# Altium schematic symbol library control.SchLib: 79 symbols
Pins are listed as number, name and electrical type; pins without a type are passive.

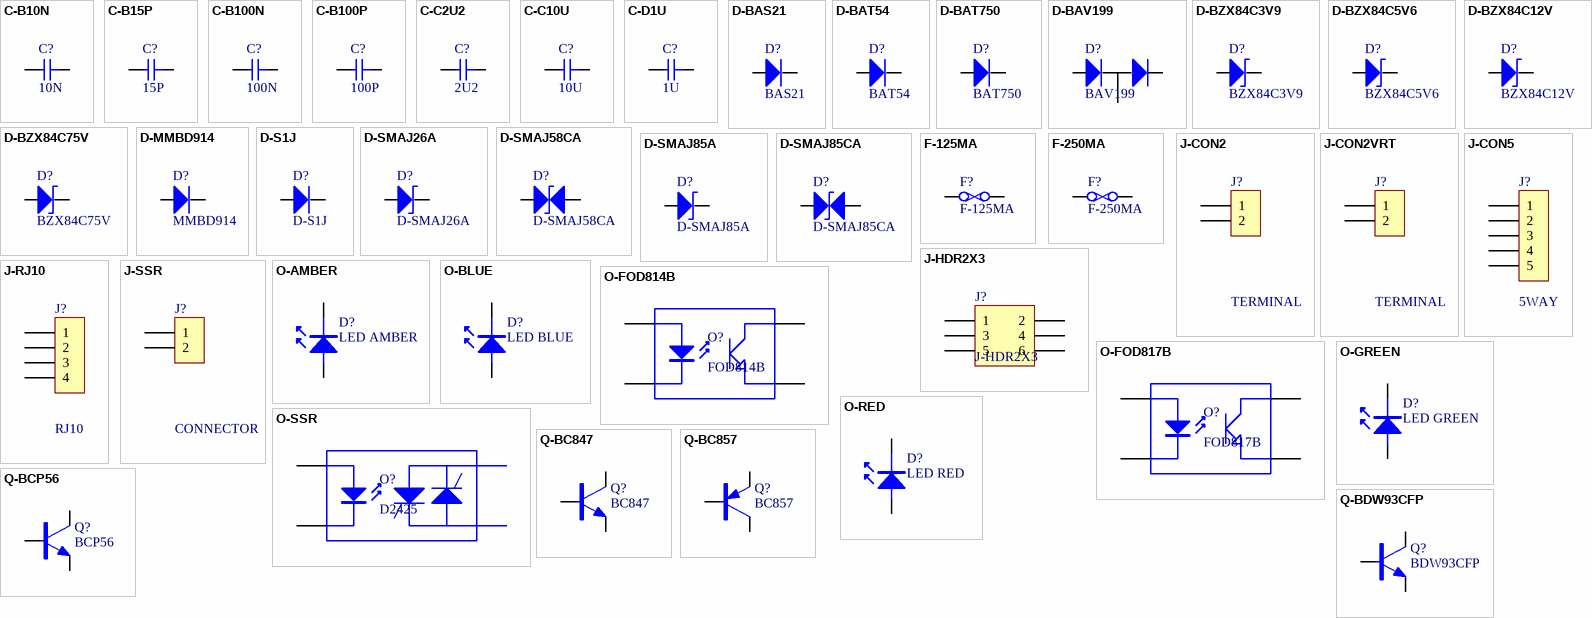
[diagram p0: symbols C-B10N to Q-BDW93CFP]

## C-B10N
designator C?, comment 10N
CAPACITOR; Detail: 25 V; Cost: *; Order: *
footprint 0805
pins: 1, 2

## C-B15P
designator C?, comment 15P
CAPACITOR; Detail: 25 V; Cost: *; Order: *
footprint 0805
pins: 1, 2

## C-B100N
designator C?, comment 100N
CAPACITOR; Detail: 25 V; Cost: *; Order: *
footprint 0805
pins: 1, 2

## C-B100P
designator C?, comment 100P
CAPACITOR; Detail: 25 V; Cost: *; Order: *
footprint 0805
pins: 1, 2

## C-C2U2
designator C?, comment 2U2
CAPACITOR; Detail: 25 V
footprint 1206 (SMD 1206)
pins: 1, 2

## C-C10U
designator C?, comment 10U
CAPACITOR; Detail: 35 V
footprint 1206 (SMD 1206)
pins: 1, 2

## C-D1U
designator C?, comment 1U
CAPACITOR; Detail: 100V
footprint 1206 (SMD 1206)
pins: 1, 2

## D-BAS21
designator D?, comment BAS21
DIODE; Detail: BAS21LT1G; Order: (DK) BAS21LT1GOSTR-ND
footprint SOT23
pins: 1 A, 3 K

## D-BAT54
designator D?, comment BAT54
DIODE; Detail: *
footprint SOT23
pins: 1 A, 3 K

## D-BAT750
designator D?, comment BAT750
DIODE; Detail: BAT750-7-F; Order: (DK) BAT750-FDITR-ND
footprint SOT23
pins: 1 A, 3 K

## D-BAV199
designator D?, comment BAV199
DUAL DIODE; Detail: BAV199
footprint SOT23
pins: 1 A, 2 K, 3 C

## D-BZX84C3V9
designator D?, comment BZX84C3V9
ZENER DIODE; Detail: BZX84C3V9; Order: *; Cost: 0.027
footprint SOT23
pins: 1 A, 3 K

## D-BZX84C5V6
designator D?, comment BZX84C5V6
ZENER DIODE; Detail: BZX84C5V6; Order: *; Cost: 0.027
footprint SOT23
pins: 1 A, 3 K

## D-BZX84C12V
designator D?, comment BZX84C12V
ZENER DIODE; Detail: BZX84C12V; Order: *; Cost: 0.027
footprint SOT23
pins: 1 A, 3 K

## D-BZX84C75V
designator D?, comment BZX84C75V
ZENER DIODE; Detail: BZX84C75V; Order: *; Cost: 0.027
footprint SOT23
pins: 1 A, 3 K

## D-MMBD914
designator D?, comment MMBD914
DIODE; Detail: MMBD914
footprint SOT23
pins: 1 A, 3 K

## D-S1J
designator D?
DIODE; Detail: FAIRCHILD S1J; Order: (DK) S1JFSTR-ND; Cost: 0.0384
footprint SMA
pins: 1 A, 2 K

## D-SMAJ26A
designator D?
ZENER DIODE; Detail: *
footprint SMA
pins: 1 A, 2 K

## D-SMAJ58CA
designator D?
ZENER DIODE; Detail: *
footprint SMA
pins: 1 A, 2 K

## D-SMAJ85A
designator D?
ZENER DIODE; Detail: *
footprint SMA
pins: 1 A, 2 K

## D-SMAJ85CA
designator D?
ZENER DIODE; Detail: *
footprint SMA
pins: 1 A, 2 K

## F-125MA
designator F?
FUSE; Detail: LITTLE FUSE 0466.125NR; Order: E14 PN 1596521
footprint 1206 (SMD 1206)
pins: 1, 2

## F-250MA
designator F?
FUSE; Detail: Bel Type FC-203
footprint FC203 (Fuse Holder 5 x 15 mm)
pins: 1, 2, 3, 4

## J-CON2
designator J?, comment TERMINAL
CONNECTOR; Detail: CAMDENBOSS CTB9208/2 AND CTB9308/2
footprint CTB9308 (PLUGGABLE SCREW TERMINAL)
pins: 1, 2

## J-CON2VRT
designator J?, comment TERMINAL
CONNECTOR; Detail: CAMDENBOSS CTB9308/2 AND CTB92VJ/2S
footprint CTB9308 (PLUGGABLE SCREW TERMINAL)
pins: 1, 2

## J-CON5
designator J?, comment 5WAY
CONNECTOR
footprint CON5 (SIL CONNECTOR)
pins: 1, 2, 3, 4, 5

## J-HDR2X3
designator J?
CONNECTOR; Order: CREST BH2I-06; Cost: 0.03; Detail: *
footprint HDR3X2 (Header 3 x 2)
pins: 1, 2, 3, 4, 5, 6

## J-RJ10
designator J?, comment RJ10
CONNECTOR; Detail: MOLEX 85513-5116
footprint MOLEX85513 (MOD JACK 4P4C SMD)
pins: 1, 2, 3, 4

## J-SSR
designator J?, comment CONNECTOR
Detail: MULTICOMP  MC34641
footprint CON2RA (SIL CONNECTOR)
pins: 1, 2

## O-AMBER
designator D?, comment LED AMBER
LED; Order: (DK) C503B-AAN-CY0B0251-ND; Detail: CREE C503B-AAN-CY0B0251; Cost: 0.15
footprint LED5MM (LED)
pins: 1 A, 2 K

## O-BLUE
designator D?, comment LED BLUE
LED; Order: (DK) C503B-BAN-CY0C0461-ND; Detail: CREE C503B-BAN-CY0C0461; Cost: 0.15
footprint LED5MM (LED)
pins: 1 A, 2 K

## O-FOD814B
designator O?, comment FOD814B
OPTO ISOLATOR
footprint SOP4 (FOD817)
pins: 1 A, 2 K, 3 E, 4 C

## O-FOD817B
designator O?, comment FOD817B
OPTO ISOLATOR; Order: (DK) FOD817B3SDTR-ND; Detail: FAIRCHILD FOD817B3SD; Cost: 0.136
footprint SOP4 (FOD817)
pins: 1 A, 2 K, 3 E, 4 C

## O-GREEN
designator D?, comment LED GREEN
LED; Order: (DK) C503B-GAN-CB0F0791-ND; Detail: CREE C503B-GAN-CB0F0791; Cost: 0.15
footprint LED5MM (LED)
pins: 1 A, 2 K

## O-RED
designator D?, comment LED RED
LED; Order: (DK) C503B-RAN-CY0B0AA1-ND; Detail: CREE C503B-RAN-CY0B0AA1; Cost: 0.15
footprint LED5MM (LED)
pins: 1 A, 2 K

## O-SSR
designator O?, comment D2425
SOLID STATE RELAY; Detail: CROYDOM D2425
footprint SSR (D2425)
pins: 3 A, 4 K

## Q-BC847
designator Q?, comment BC847
TRANSISTOR NPN
footprint SOT23
pins: 1 B, 2 E, 3 C

## Q-BC857
designator Q?, comment BC857
TRANSISTOR PNP
footprint SOT23
pins: 1 B, 2 E, 3 C

## Q-BCP56
designator Q?, comment BCP56
TRANSISTOR NPN; Order: (DK)
footprint SOT223
pins: 1 B, 2 C, 3 E

## Q-BDW93CFP
designator Q?, comment BDW93CFP
TRANSISTOR NPN; Order: (DK)
footprint TO220F (TO220 Flat Reverse)
pins: 1 B, 2 C, 3 E

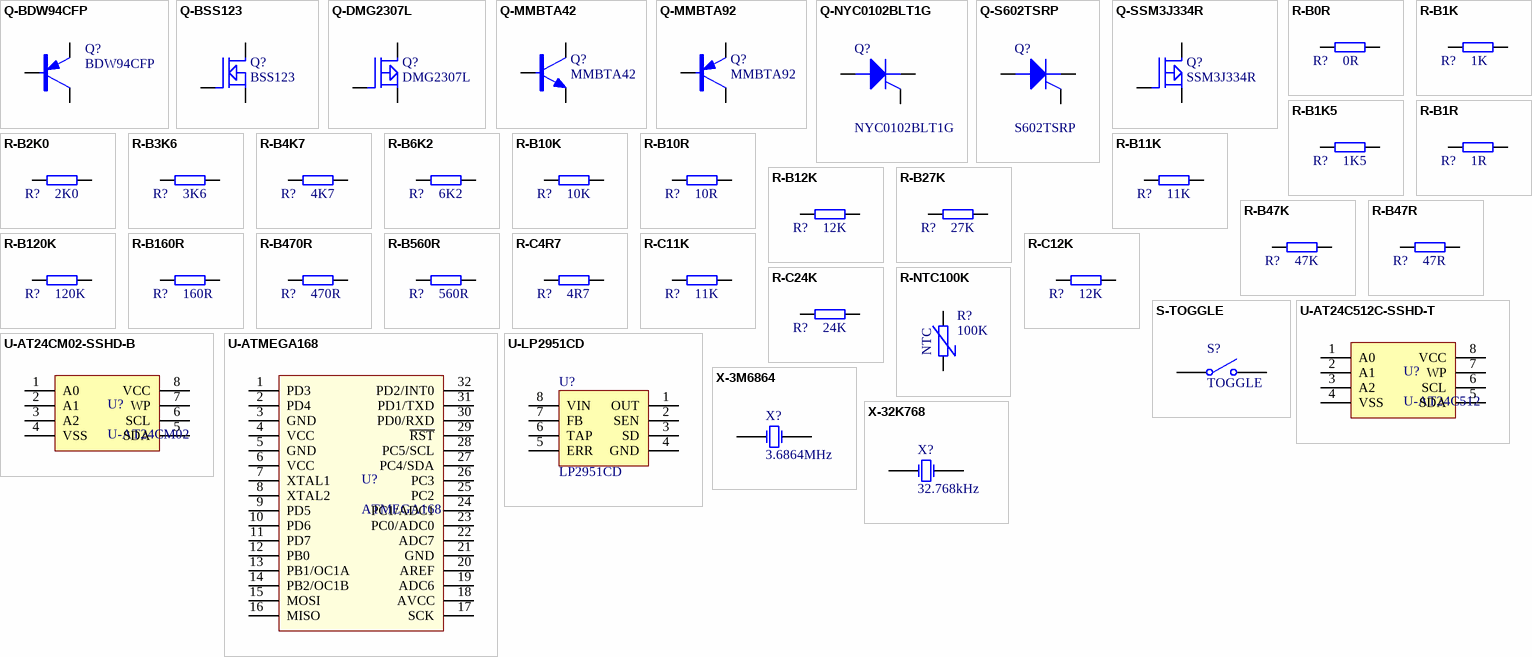
[diagram p1: symbols Q-BDW94CFP to X-32K768]

## Q-BDW94CFP
designator Q?, comment BDW94CFP
PNP; Detail: *
footprint TO220F (TO220 Flat Reverse)
pins: 1 B, 2 C, 3 E

## Q-BSS123
designator Q?, comment BSS123
N CH MOSFET
footprint SOT23
pins: 1 G, 2 S, 3 D

## Q-DMG2307L
designator Q?, comment DMG2307L
P CH MOSFET
footprint SOT23
pins: 1 G, 2 S, 3 D

## Q-MMBTA42
designator Q?, comment MMBTA42
NPN; Detail: *
footprint SOT23
pins: 1 B, 2 E, 3 C

## Q-MMBTA92
designator Q?, comment MMBTA92
TRANSISTOR PNP
footprint SOT23
pins: 1 B, 2 E, 3 C

## Q-NYC0102BLT1G
designator Q?, comment NYC0102BLT1G
SCR
footprint SOT23
pins: 1 K, 2 G, 3 A

## Q-S602TSRP
designator Q?, comment S602TSRP
SCR
footprint SOT223
pins: 1 K, 2 A, 3 G

## Q-SSM3J334R
designator Q?, comment SSM3J334R
P CH MOSFET; Order: (DK) SSM3J334RLFCT-ND; Cost: 0.50; Detail: SSM3J334R
footprint SOT23
pins: 1 G, 2 S, 3 D

## R-B0R
designator R?, comment 0R
RESISTOR; Detail: *; Order: *; Cost: *
footprint 0805
pins: 1, 2

## R-B1K
designator R?, comment 1K
RESISTOR; Detail: *; Order: *; Cost: *
footprint 0805
pins: 1, 2

## R-B1K5
designator R?, comment 1K5
RESISTOR; Detail: *; Order: *; Cost: *
footprint 0805
pins: 1, 2

## R-B1R
designator R?, comment 1R
RESISTOR; Detail: *; Order: *; Cost: *
footprint 0805
pins: 1, 2

## R-B2K0
designator R?, comment 2K0
RESISTOR; Detail: *; Order: *; Cost: *
footprint 0805
pins: 1, 2

## R-B3K6
designator R?, comment 3K6
RESISTOR; Detail: *; Order: *; Cost: *
footprint 0805
pins: 1, 2

## R-B4K7
designator R?, comment 4K7
RESISTOR; Detail: *; Order: *; Cost: *
footprint 0805
pins: 1, 2

## R-B6K2
designator R?, comment 6K2
RESISTOR; Detail: *; Order: *; Cost: *
footprint 0805
pins: 1, 2

## R-B10K
designator R?, comment 10K
RESISTOR; Detail: *; Order: *; Cost: *
footprint 0805
pins: 1, 2

## R-B10R
designator R?, comment 10R
RESISTOR; Detail: *; Order: *; Cost: *
footprint 0805
pins: 1, 2

## R-B11K
designator R?, comment 11K
RESISTOR; Detail: *; Order: *; Cost: *
footprint 0805
pins: 1, 2

## R-B12K
designator R?, comment 12K
RESISTOR; Detail: *; Order: *; Cost: *
footprint 0805
pins: 1, 2

## R-B27K
designator R?, comment 27K
RESISTOR; Detail: *; Order: *; Cost: *
footprint 0805
pins: 1, 2

## R-B47K
designator R?, comment 47K
RESISTOR; Detail: *; Order: *; Cost: *
footprint 0805
pins: 1, 2

## R-B47R
designator R?, comment 47R
RESISTOR; Detail: *; Order: *; Cost: *
footprint 0805
pins: 1, 2

## R-B120K
designator R?, comment 120K
RESISTOR; Detail: *; Order: *; Cost: *
footprint 0805
pins: 1, 2

## R-B160R
designator R?, comment 160R
RESISTOR; Detail: *; Order: *; Cost: *
footprint 0805
pins: 1, 2

## R-B470R
designator R?, comment 470R
RESISTOR; Detail: *; Order: *; Cost: *
footprint 0805
pins: 1, 2

## R-B560R
designator R?, comment 560R
RESISTOR; Detail: *; Order: *; Cost: *
footprint 0805
pins: 1, 2

## R-C4R7
designator R?, comment 4R7
RESISTOR; Detail: *; Order: *; Cost: *
footprint 1206 (SMD 1206)
pins: 1, 2

## R-C11K
designator R?, comment 11K
RESISTOR; Detail: *; Order: *; Cost: *
footprint 1206 (SMD 1206)
pins: 1, 2

## R-C12K
designator R?, comment 12K
RESISTOR; Detail: *; Order: *; Cost: *
footprint 1206 (SMD 1206)
pins: 1, 2

## R-C24K
designator R?, comment 24K
RESISTOR; Detail: *; Order: *; Cost: *
footprint 1206 (SMD 1206)
pins: 1, 2

## R-NTC100K
designator R?, comment 100K
THERMISTOR; Order: (DK) 490-2451-1-ND; Detail: MURATA NCP21WF104J03RA; Cost: 0.20
footprint 0805 (SMD 0805)
pins: 1, 2
text: NTC

## S-TOGGLE
designator S?, comment TOGGLE
SWITCH
footprint SW (Power Switch)
pins: 1 COMMON, 2 NO

## U-AT24C512C-SSHD-T
designator U?, comment U-AT24C512
I2C 256KBIT EEPROM; Detail: AT24C512C-SSHM
footprint SO8
pins: 1 A0, 2 A1, 3 A2, 4 VSS, 5 SDA, 6 SCL, 7 WP, 8 VCC

## U-AT24CM02-SSHD-B
designator U?, comment U-AT24CM02
I2C 2MBIT EEPROM; Detail: AT24CM02-SSHD-B
footprint SO8
pins: 1 A0, 2 A1, 3 A2, 4 VSS, 5 SDA, 6 SCL, 7 WP, 8 VCC

## U-ATMEGA168
designator U?, comment ATMEGA168
MICROCONTROLLER; Order: (DK) ATMEGA168A-AURTR-ND; Detail: ATMEGA168A-AUR; Cost: 1.45
footprint TQFP32
pins: 1 PD3, 2 PD4, 3 GND, 4 VCC, 5 GND, 6 VCC, 7 XTAL1, 8 XTAL2, 9 PD5, 10 PD6, 11 PD7, 12 PB0, 13 PB1/OC1A, 14 PB2/OC1B, 15 MOSI, 16 MISO, 17 SCK, 18 AVCC, 19 ADC6, 20 AREF, 21 GND, 22 ADC7, 23 PC0/ADC0, 24 PC1/ADC1, 25 PC2, 26 PC3, 27 PC4/SDA, 28 PC5/SCL, 29 ~{RST}, 30 PD0/RXD, 31 PD1/TXD, 32 PD2/INT0

## U-LP2951CD
designator U?, comment LP2951CD
VOLTAGE REGULATOR 5V
footprint SO8
pins: 1 OUT, 2 SEN, 3 SD, 4 GND, 5 ERR, 6 TAP, 7 FB, 8 VIN
1 alternate drawing of the same symbol

## X-3M6864
designator X?, comment 3.6864MHz
CRYSTAL; Detail: ABRACON ABLS-3.6864MHZ-B2-T; Order: (DK) 535-9082-2-ND; Cost: 0.21
footprint HC49
pins: 1 OSC1, 2 OSC2

## X-32K768
designator X?, comment 32.768kHz
CRYSTAL; Detail: HCS308C; Order: (DK)
footprint SPT2A
pins: 1 OSC1, 2 OSC2